# Altium footprint library AmpClick.PcbLib: 19 footprints (part 2 of 2)
Each footprint in its own frame and in the unit in brackets; x right, y up, seen from the top. Pads: shape width x height; smd on the part's side, far side on the other; paste and mask are expansions set on the pad; w line width, h text height; cw(c..) or ccw(c..) is an arc to the next point about the centre after c.
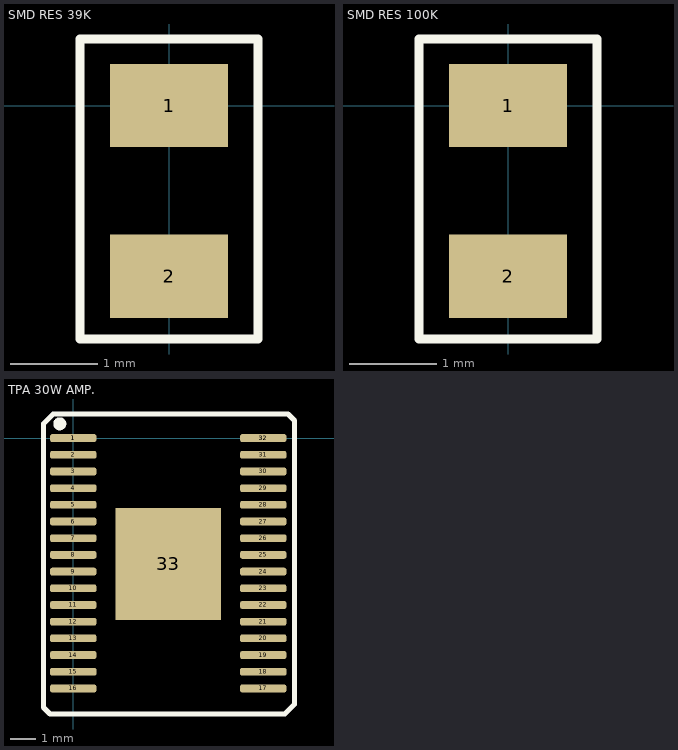
[diagram p1: the footprints below, top view; thin cyan lines are the x and y axes]

## SMD RES 39K [mm]
pads (2):
  rect 1.35x0.95 smd mask+0.05: 1(0,0) 2(0,-1.95)
Top Overlay:
  lines w0.1: -1.016,-2.667 -1.016,0.762 1.016,0.762 1.016,-0.095 1.016,-0.524 1.016,-1.381 1.016,-1.81 1.016,-2.667 0.318,-2.667 -0.318,-2.667 -1.016,-2.667
3D body "User Library-Res_Vishay_CRCW0805_2012.step": height 0.45, standoff 0, extent -0.625,-2.016 0.625,-0.016

## SMD RES 100K [mm]
pads (2):
  rect 1.35x0.95 smd mask+0.05: 1(0,0) 2(0,-1.95)
Top Overlay:
  lines w0.1: -1.016,-2.667 -0.318,-2.667 0.318,-2.667 1.016,-2.667 1.016,-1.81 1.016,-1.381 1.016,-0.524 1.016,-0.095 1.016,0.762 -1.016,0.762 -1.016,-2.667
3D body "User Library-Res_Vishay_CRCW0805_2012.step": height 0.45, standoff 0, extent -0.625,-2.016 0.625,-0.016

## TPA 30W AMP. [mm]
pads (35):
  rrect50% 1.8x0.3 smd mask+0.07: 1(0,0) 1(0,0) 2(0,-0.65) 3(0,-1.3) 4(0,-1.95) 5(0,-2.6) 6(0,-3.25) 7(0,-3.9) 8(0,-4.55) 9(0,-5.2) 10(0,-5.85) 11(0,-6.5) 12(0,-7.15) 13(0,-7.8) 14(0,-8.45) 15(0,-9.1) 16(0,-9.75) 17(7.4,-9.75) 18(7.4,-9.1) 19(7.4,-8.45) 20(7.4,-7.8) 21(7.4,-7.15) 22(7.4,-6.5) 23(7.4,-5.85) 24(7.4,-5.2) 25(7.4,-4.55) 26(7.4,-3.9) 27(7.4,-3.25) 28(7.4,-2.6) 29(7.4,-1.95) 30(7.4,-1.3) 31(7.4,-0.65) 32(7.4,0) 32(7.4,0)
  rect 4.11x4.36 smd mask+0.05: 33(3.7,-4.904)
Top Overlay:
  circle w0.254: c-0.525,0.557 r0.127
  lines w0.2: -1.16,-10.492 -1.16,0.557 -0.779,0.938 8.365,0.938 8.619,0.684 8.619,-10.365 8.238,-10.746 -0.906,-10.746 -1.16,-10.492
3D body "User Library-HTSSOP32.step": height 1.1, standoff 0, extent -0.316,-10.376 7.902,0.724